# Altium footprint library Packages.PcbLib: 10 footprints
Each footprint in its own frame and in the unit in brackets; x right, y up, seen from the top. Pads: shape width x height; smd on the part's side, far side on the other; paste and mask are expansions set on the pad; w line width, h text height; cw(c..) or ccw(c..) is an arc to the next point about the centre after c.
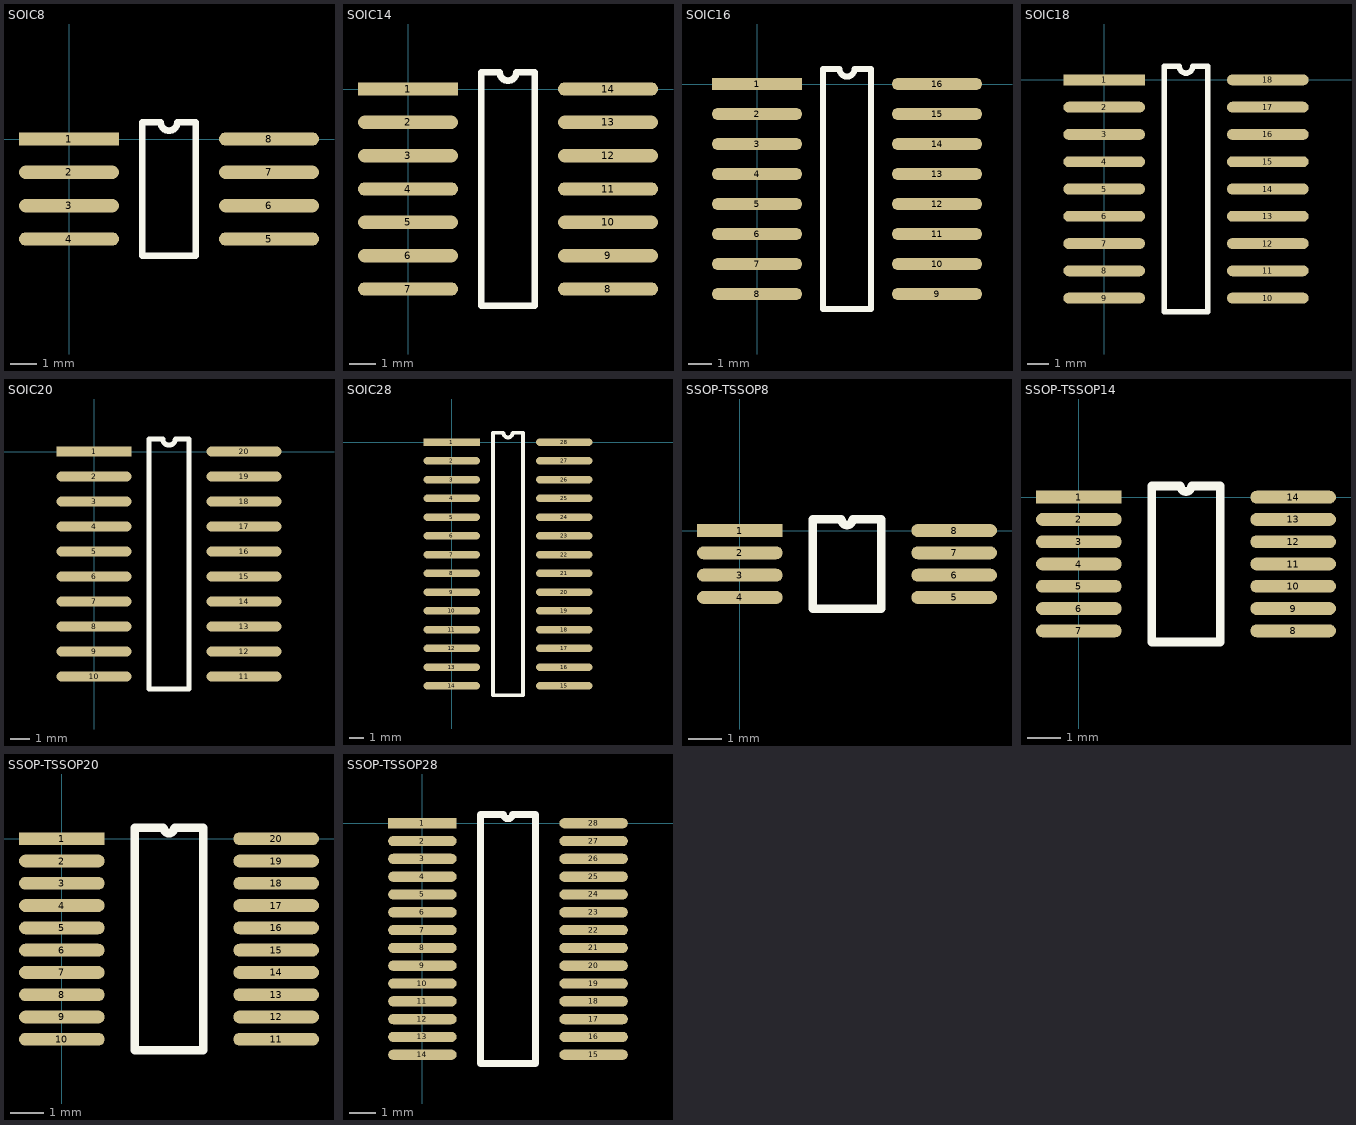
[diagram p0: the footprints below, top view; thin cyan lines are the x and y axes]

## SOIC8 [mil]
pads (8):
  rect 150x20 smd: 1(0,0)
  oval 150x20 smd: 2(0,-50) 3(0,-100) 4(0,-150) 5(300,-150) 6(300,-100) 7(300,-50) 8(300,0)
Top Overlay:
  lines w10: 110,-175 110,25 137.5,25 ccw(c150,25) 162.5,25 190,25 190,-175 110,-175

## SOIC14 [mil]
pads (14):
  rect 150x20 smd: 1(0,0)
  oval 150x20 smd: 2(0,-50) 3(0,-100) 4(0,-150) 5(0,-200) 6(0,-250) 7(0,-300) 8(300,-300) 9(300,-250) 10(300,-200) 11(300,-150) 12(300,-100) 13(300,-50) 14(300,0)
Top Overlay:
  lines w10: 110,-325 190,-325 190,25 162.5,25 cw(c150,25) 137.5,25 110,25 110,-325

## SOIC16 [mil]
pads (16):
  rect 150x20 smd: 1(0,0)
  oval 150x20 smd: 2(0,-50) 3(0,-100) 4(0,-150) 5(0,-200) 6(0,-250) 7(0,-300) 8(0,-350) 9(300,-350) 10(300,-300) 11(300,-250) 12(300,-200) 13(300,-150) 14(300,-100) 15(300,-50) 16(300,0)
Top Overlay:
  lines w10: 110,-375 190,-375 190,25 162.5,25 cw(c150,25) 137.5,25 110,25 110,-375

## SOIC18 [mil]
pads (18):
  rect 150x20 smd: 1(0,0)
  oval 150x20 smd: 2(0,-50) 3(0,-100) 4(0,-150) 5(0,-200) 6(0,-250) 7(0,-300) 8(0,-350) 9(0,-400) 10(300,-400) 11(300,-350) 12(300,-300) 13(300,-250) 14(300,-200) 15(300,-150) 16(300,-100) 17(300,-50) 18(300,0)
Top Overlay:
  lines w10: 110,-425 190,-425 190,25 162.5,25 cw(c150,25) 137.5,25 110,25 110,-425

## SOIC20 [mil]
pads (20):
  rect 150x20 smd: 1(0,0)
  oval 150x20 smd: 2(0,-50) 3(0,-100) 4(0,-150) 5(0,-200) 6(0,-250) 7(0,-300) 8(0,-350) 9(0,-400) 10(0,-450) 11(300,-450) 12(300,-400) 13(300,-350) 14(300,-300) 15(300,-250) 16(300,-200) 17(300,-150) 18(300,-100) 19(300,-50) 20(300,0)
Top Overlay:
  lines w10: 110,-475 110,25 137.5,25 ccw(c150,25) 162.5,25 190,25 190,-475 110,-475

## SOIC28 [mil]
pads (28):
  rect 150x20 smd: 1(0,0)
  oval 150x20 smd: 2(0,-50) 3(0,-100) 4(0,-150) 5(0,-200) 6(0,-250) 7(0,-300) 8(0,-350) 9(0,-400) 10(0,-450) 11(0,-500) 12(0,-550) 13(0,-600) 14(0,-650) 15(300,-650) 16(300,-600) 17(300,-550) 18(300,-500) 19(300,-450) 20(300,-400) 21(300,-350) 22(300,-300) 23(300,-250) 24(300,-200) 25(300,-150) 26(300,-100) 27(300,-50) 28(300,0)
Top Overlay:
  lines w10: 110,-675 110,25 137.5,25 ccw(c150,25) 162.5,25 190,25 190,-675 110,-675

## SSOP-TSSOP8 [mil]
pads (8):
  rect 100x15 smd: 1(0,0)
  oval 100x15 smd: 2(0,-26) 3(0,-52) 4(0,-78) 5(250,-78) 6(250,-52) 7(250,-26) 8(250,0)
Top Overlay:
  lines w10: 85,-91 165,-91 165,13 131.5,13 cw(c125,13) 118.5,13 85,13 85,-91

## SSOP-TSSOP14 [mil]
pads (14):
  rect 100x15 smd: 1(0,0)
  oval 100x15 smd: 2(0,-26) 3(0,-52) 4(0,-78) 5(0,-104) 6(0,-130) 7(0,-156) 8(250,-156) 9(250,-130) 10(250,-104) 11(250,-78) 12(250,-52) 13(250,-26) 14(250,0)
Top Overlay:
  lines w10: 85,-169 165,-169 165,13 131.5,13 cw(c125,13) 118.5,13 85,13 85,-169

## SSOP-TSSOP20 [mil]
pads (20):
  rect 100x15 smd: 1(0,0)
  oval 100x15 smd: 2(0,-26) 3(0,-52) 4(0,-78) 5(0,-104) 6(0,-130) 7(0,-156) 8(0,-182) 9(0,-208) 10(0,-234) 11(250,-234) 12(250,-208) 13(250,-182) 14(250,-156) 15(250,-130) 16(250,-104) 17(250,-78) 18(250,-52) 19(250,-26) 20(250,0)
Top Overlay:
  lines w10: 85,-247 85,13 118.5,13 ccw(c125,13) 131.5,13 165,13 165,-247 85,-247

## SSOP-TSSOP28 [mil]
pads (28):
  rect 100x15 smd: 1(0,0)
  oval 100x15 smd: 2(0,-26) 3(0,-52) 4(0,-78) 5(0,-104) 6(0,-130) 7(0,-156) 8(0,-182) 9(0,-208) 10(0,-234) 11(0,-260) 12(0,-286) 13(0,-312) 14(0,-338) 15(250,-338) 16(250,-312) 17(250,-286) 18(250,-260) 19(250,-234) 20(250,-208) 21(250,-182) 22(250,-156) 23(250,-130) 24(250,-104) 25(250,-78) 26(250,-52) 27(250,-26) 28(250,0)
Top Overlay:
  lines w10: 85,-351 165,-351 165,13 131.5,13 cw(c125,13) 118.5,13 85,13 85,-351